# Altium footprint library 1042P.PcbLib: 1 footprints
Each footprint in its own frame and in the unit in brackets; x right, y up, seen from the top. Pads: shape width x height; smd on the part's side, far side on the other; paste and mask are expansions set on the pad; w line width, h text height; cw(c..) or ccw(c..) is an arc to the next point about the centre after c.
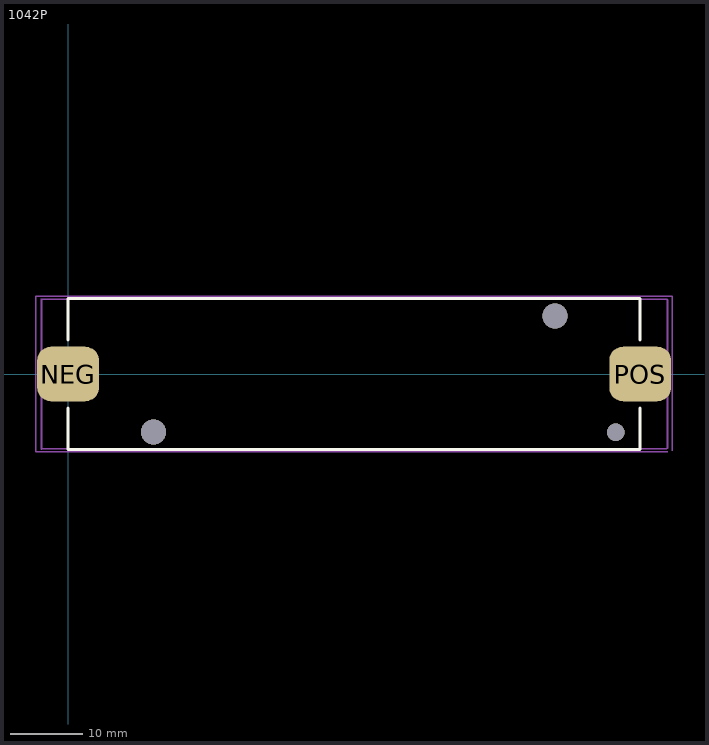
[diagram p0: the footprint, top view; thin cyan lines are the x and y axes]

## 1042P [mm] "18650 Battery Holder"
pads (2):
  rrect50% 8.5x7.5 smd: NEG(0,0) POS(78.66,0)
via 75.275,-8 diameter 2.39 hole 2.39
via 66.945,8 diameter 3.45 hole 3.45
via 11.725,-8 diameter 3.45 hole 3.45
Top Overlay:
  lines w0.4: 0,-4.7 0,-10.4 78.66,-10.4 78.66,-4.7 ; 0,4.7 0,10.4 78.66,10.4 78.66,4.7
Top Assembly:
  lines w0.254: 82.296,-10.287 -3.645,-10.287 -3.683,-10.325 -3.683,10.249 -3.645,10.287 82.296,10.287 82.423,10.16 82.423,-10.16
Top Courtyard:
  lines w0.2: 82.423,-10.668 -4.445,-10.668 -4.445,10.668 83.058,10.668 83.058,-10.541
3D body "keystone-PN1042P.STEP": height 14.86, standoff -3.43, extent -3.683,-10.325 82.321,10.325